# Altium footprint library miscellaneous.PcbLib: 34 footprints (part 1 of 3)
Each footprint in its own frame and in the unit in brackets; x right, y up, seen from the top. Pads: shape width x height; smd on the part's side, far side on the other; paste and mask are expansions set on the pad; w line width, h text height; cw(c..) or ccw(c..) is an arc to the next point about the centre after c.
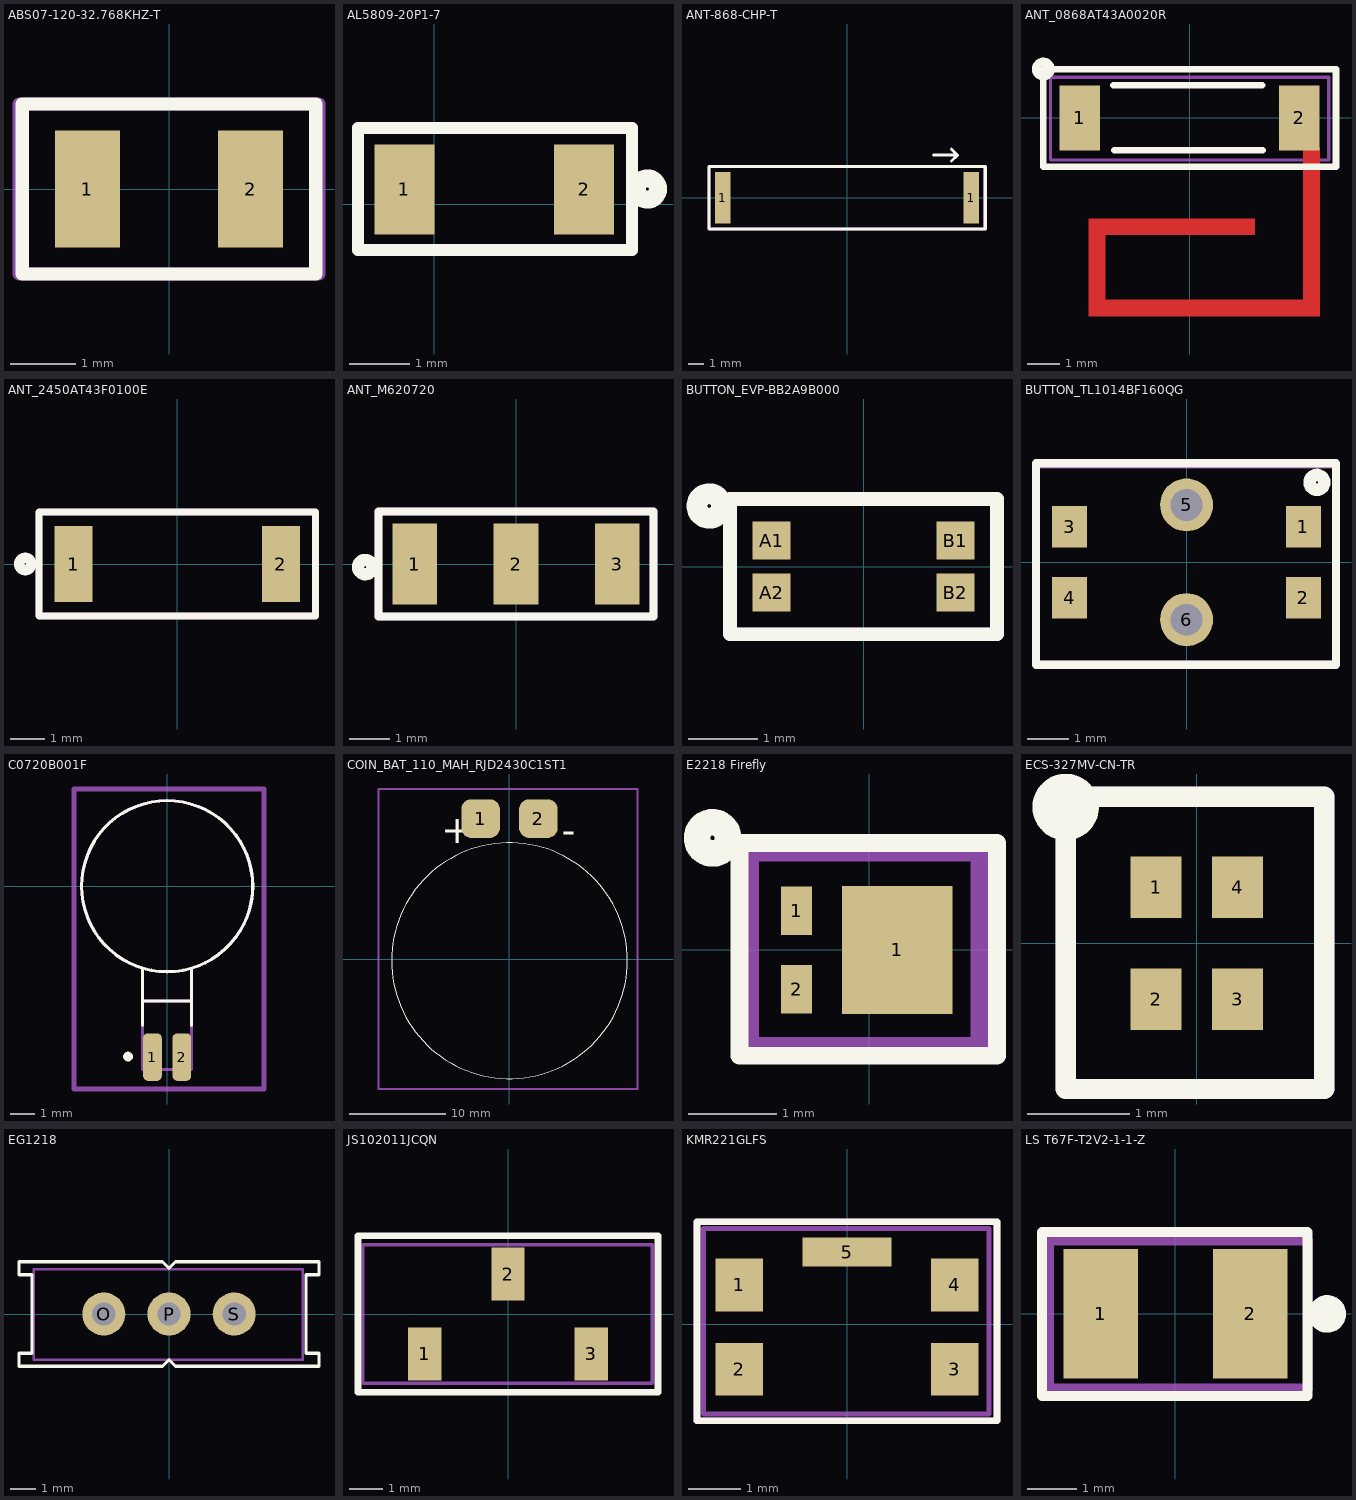
[diagram p0: the footprints below, top view; thin cyan lines are the x and y axes]

## ABS07-120-32.768KHZ-T [mm]
pads (2):
  rect 1x1.8 smd: 1(-1.25,0) 2(1.25,0)
Top Overlay:
  lines w0.2: -2.25,-1.3 -2.25,1.3 2.25,1.3 2.25,-1.3 -2.25,-1.3
Top Assembly:
  lines w0.2: -2.3,-1.3 2.3,-1.3 2.3,1.3 -2.3,1.3 -2.3,-1.3
  text ".Designator" at -1.325,-0.45 h0.89
3D body: height 0.77, standoff 0, extent -1.65,-0.8 1.65,0.8

## AL5809-20P1-7 [mm] "IC LED DRVR LIN PWM 20MA PDI12"
pads (2):
  rect 1x1.5 smd: 1(-0.498,0.248) 2(2.502,0.248)
Top Overlay:
  circle w0.3: c3.556,0.254 r0.177
  lines w0.2: -1.27,-0.762 -1.27,1.27 3.302,1.27 3.302,-0.762 -1.27,-0.762
Top Assembly:
  lines w0.2: -1.27,-0.762 3.302,-0.762 3.302,1.27 -1.27,1.27 -1.27,-0.762
  text ".Designator" at -0.508,-0.127 h0.89
3D body "User Library-POWERDI-123.STEP": height 1, standoff 0, extent -0.934,-0.711 2.966,1.219

## ANT-868-CHP-T [mil] "RF ANT 868MHZ CHIP SOLDER SMD"
pads (2):
  rect 40x130 smd: 1(-315,0) 1(315,0)
Top Overlay:
  lines w7.87: 219.45,108.27 279.49,108.27 264.72,123.03 ; 264.69,93 279.45,107.76 ; -349.45,-78.74 -349.45,78.74 350.35,78.74 350.35,-78.74 -349.45,-78.74
Top Assembly:
  lines w7.87: -349.45,-78.74 350.35,-78.74 350.35,78.74 -349.45,78.74 -349.45,-78.74
  text ".Designator" at -277.6,-16.73 h35
3D body: height 66.93, standoff 0, extent -315,-59.05 314.93,59.06

## ANT_0868AT43A0020R [mm]
pads (2):
  rect 1.25x2 smd: 1(-3.375,0) 2(3.375,0)
Top Layer:
  region: -3.1,-3.6 -3.1,-3.1 2,-3.1 2,-3.6
  region: -3.1,-5.6 -3.1,-3.1 -2.6,-3.1 -2.6,-5.6
  region: -3.1,-6.1 -3.1,-5.6 4,-5.6 4,-6.1
  region: 3.5,-6.1 3.5,-0.9 4,-0.9 4,-6.1
Top Overlay:
  circle w0.254: c-4.5,1.499 r0.224
  lines w0.2: -2.35,1 2.225,1 ; -2.325,-1 2.25,-1 ; -4.5,-1.5 -4.5,1.499 4.5,1.499 4.5,-1.5 -4.5,-1.5
Top Assembly:
  lines w0.1: -4.275,-1.3 4.275,-1.3 4.275,1.25 -4.275,1.25 -4.275,-1.3
  text ".Designator" at -2,-0.35 h0.89
3D body "User Library-0868AT43A0020.step": height 0.8, standoff 0, extent -3.55,-1 3.45,1

## ANT_2450AT43F0100E [mm] "RF ANT 2.4GHZ CHIP SOLDER SMD"
pads (2):
  rect 1.1x2.2 smd: 1(-3,0) 2(3,0)
Top Overlay:
  circle w0.3: c-4.4,0 r0.177
  lines w0.2: -4,-1.5 4,-1.5 4,1.5 -4,1.5 -4,-1.5
Top Assembly:
  lines w0.2: -4,-1.5 -4,1.5 4,1.5 4,-1.5 -4,-1.5
  text ".Designator" at -2.1,-0.4 h0.89
3D body "Johanson_2450AT43F0100.step": height 1.2, standoff 0, extent -3,-1 3,1

## ANT_M620720 [mm] "RF ANT 868MHZ/915MHZ CHIP SLD"
pads (3):
  rect 1.1x2 smd: 1(-2.5,0) 2(0,0) 3(2.5,0)
Top Overlay:
  circle w0.3: c-3.719,-0.076 r0.177
  lines w0.2: -3.389,-1.295 -3.389,1.295 3.393,1.295 3.393,-1.295 -3.389,-1.295
Top Assembly:
  lines w0.2: -3.389,-1.295 3.393,-1.295 3.393,1.295 -3.389,1.295 -3.389,-1.295
  text ".Designator" at -1.95,-0.436 h0.89
3D body "User Library-M562720.step": height 1.05, standoff -0.05, extent -3.001,-1.001 3.001,1.001

## BUTTON_EVP-BB2A9B000 [mm] "SWITCH TACTILE SPST-NO 0.02A 15V"
pads (4):
  rect 0.55x0.55 smd paste-1: A1(-1.325,0.375) A2(-1.325,-0.375) B1(1.325,0.375) B2(1.325,-0.375)
Top Overlay:
  circle w0.3: c-2.225,0.875 r0.177
  lines w0.2: -1.925,-0.975 1.925,-0.975 1.925,0.975 -1.925,0.975 -1.925,-0.975
Top Assembly:
  lines w0.2: -1.925,-0.975 -1.925,0.975 1.925,0.975 1.925,-0.975 -1.925,-0.975
  text ".Designator" at -1.275,-0.45 h0.89
3D body "User Library-EVPBB2A9B000.step": height 0.51, standoff -0.03, extent -1.475,-0.9 1.525,0.9

## BUTTON_TL1014BF160QG [mm] "Push button side actuator"
pads (6):
  rect 0.838x0.991 smd paste+0 mask+0: 1(2.8,0.85) 2(2.8,-0.85) 3(-2.8,0.85) 4(-2.8,-0.85)
  round 1.27 hole 0.762: 5(0,1.375) 6(0,-1.375)
Top Overlay:
  circle w0.3: c3.124,1.915 r0.177
  lines w0.2: -3.607,-2.454 -3.607,2.372 3.581,2.372 3.581,-2.454 -3.607,-2.454
Top Assembly:
  lines w0.2: -3.607,-2.454 3.581,-2.454 3.581,2.347 -3.607,2.347 -3.607,-2.454
  text ".Designator" at -2.134,-0.396 h0.89
3D body "TL1014BFxxxQG.stp": height 1.65, standoff -0.5, extent -3.2,-2.714 3.2,1.786

## C0720B001F [mm] "VIBRATION ERM MTR 10000 RPM 3V"
pads (2):
  rrect50% 0.76x1.94 smd: 1(-0.599,-6.987) 2(0.601,-6.987)
Top Overlay:
  circle w0.2: c-1.599,-6.967 r0.1
  circle w0.127: c0.001,0.003 r3.5
  lines w0.127: -0.999,-5.692 -0.999,-4.697 ; -0.999,-3.392 -0.999,-4.697 ; 1.001,-5.692 1.001,-4.697 ; 1.001,-3.392 1.001,-4.697 ; -0.999,-4.697 1.001,-4.697
Top 3D Body:
  circle w0.127: c0.001,0.003 r3.5
  lines w0.127: -0.999,-4.692 1.001,-4.692 1.001,-3.392 ; -0.999,-3.392 -0.999,-7.497 1.001,-7.497 1.001,-4.697
Top Assembly:
  lines w0.2: -3.809,-8.292 3.963,-8.292 3.963,3.977 -3.809,3.977 -3.809,-8.292
  text ".Designator" at -2.26,-1.942 h0.89
3D body "C0720B001F--3DModel-STEP-56544.STEP": height 2.1, standoff 0, extent -3.499,-7.46 3.501,3.54

## COIN_BAT_110_MAH_RJD2430C1ST1 [mm] "BATTERY LITHIUM 110mAh 3.7V COIN 24.5MM"
pads (2):
  rrect50% 4x4 smd: 1(-2.975,14.598) 2(3.025,14.598)
Top Overlay:
  circle w0.1: c0.025,-0.152 r12.25
  text "+" at -7.063,11.049 h5
  text "-" at 5.434,11.049 h5
Top Assembly:
  lines w0.2: -13.589,-13.487 -13.589,17.678 13.335,17.678 13.335,-13.487 -13.589,-13.487
  text ".Designator" at -1.325,-0.45 h0.89
3D body "RJD2430C1ST1.step": height 3.35, standoff 0, extent -12.225,-12.402 12.275,16.098

## E2218 Firefly [mm]
pads (3):
  rect 0.35x0.55 smd: 1(-0.826,0.445) 2(-0.826,-0.445)
  rect 1.25x1.45 smd: 1(0.318,0)
Top Overlay:
  circle w0.3: c-1.778,1.27 r0.177
  lines w0.2: -1.472,-1.2 1.449,-1.2 1.449,1.213 -1.472,1.213 -1.472,-1.2
Top Assembly:
  lines w0.2: -1.351,-1.09 1.249,-1.09 1.249,1.1 -1.351,1.1 -1.351,-1.09
  text ".Designator" at -0.964,-0.311 h0.89
3D body: height 0.6, standoff 0.05, extent -1.143,-0.889 1.067,0.915
3D body: height 0.61, standoff 0.05, extent -0.902,-0.673 0.826,0.648
3D body: height 0.05, standoff 0, extent -1.003,0.166 -0.648,0.724
3D body: height 0.05, standoff 0, extent -1.003,-0.723 -0.648,-0.165
3D body: height 0.05, standoff 0, extent -0.318,-0.749 0.978,0.75

## ECS-327MV-CN-TR [mm] "XTAL OSC XO 32.7680KHZ CMOS SMD"
pads (4):
  rect 0.5x0.6 smd: 1(-0.4,0.55) 2(-0.4,-0.55) 3(0.4,-0.55) 4(0.4,0.55)
Top Overlay:
  circle w0.3: c-1.289,1.337 r0.177
  lines w0.2: -1.289,-1.431 1.251,-1.431 1.251,1.439 -1.289,1.439 -1.289,-1.431
Top Assembly:
  lines w0.2: -1.289,-1.431 -1.289,1.439 1.251,1.439 1.251,-1.431 -1.289,-1.431
  text ".Designator" at -0.65,-0.25 h0.89
3D body: height 0.6, standoff 0, extent -0.756,-0.949 0.743,0.956

## EG1218 [mil] "Slide switch"
pads (3):
  round 66 hole 35.43: O(-100,0) P(0,0) S(100,0)
Top Overlay:
  lines w5: -230,-80 -10,-80 0,-70 10,-80 230,-80 230,-60 210,-60 210,60 230,60 230,80 10,80 0,70 -10,80 -230,80 -230,60 -210,60 -210,-60 -230,-60 -230,-80
Top Assembly:
  lines w3.94: -207.28,-70 205,-70 205,68.82 -207.28,68.82 -207.28,-70
  text ".Designator" at -157.09,-10.91 h35
3D body "EG1218.stp": height 275.59, standoff -200.79, extent -228.34,-78.73 228.35,78.75

## JS102011JCQN [mm] "3 ways slide switch"
pads (3):
  rect 1x1.6 smd: 1(-2.5,-1.2) 2(0,1.2) 3(2.5,-1.2)
Top Overlay:
  lines w0.2: -4.5,-2.35 4.5,-2.35 4.5,2.35 -4.5,2.35 -4.5,-2.35
Top Assembly:
  lines w0.1: -4.35,-2.075 -4.35,2.075 4.325,2.075 4.325,-2.075 -4.35,-2.075
  text ".Designator" at -3,-0.225 h0.89
3D body "JS102011JCQN--3DModel-STEP-56544.STEP": height 5.12, standoff -0.28, extent -4.25,-2 4.25,2

## KMR221GLFS [mm]
pads (5):
  rect 0.9x1 smd: 1(-2.05,0.742) 2(-2.05,-0.859) 3(2.05,-0.859) 4(2.05,0.742)
  rect 1.7x0.55 smd: 5(0,1.367)
Top Overlay:
  lines w0.127: -2.85,-1.836 -2.85,1.942 2.85,1.942 2.85,-1.836 -2.85,-1.836
Top 3D Body:
  lines w0.127: -2.85,-1.836 -2.85,1.942 2.85,1.942 2.85,-1.836 -2.85,-1.836
Top Assembly:
  lines w0.1: -2.725,-1.709 2.7,-1.709 2.7,1.816 -2.725,1.816 -2.725,-1.709
  text ".Designator" at -1.45,-0.208 h0.89
3D body "User Library-Switch-CK-KMR2.STEP": height 2.1, standoff 0, extent -2.3,-1.559 2.3,1.442

## LS T67F-T2V2-1-1-Z [mm] "LED RED CLEAR 2PLCC SMD"
pads (2):
  rect 1.5x2.6 smd: 1(-1.5,0) 2(1.5,0)
Top Overlay:
  circle w0.4: c3.048,0 r0.177
  lines w0.2: -2.678,-1.653 2.656,-1.653 2.656,1.649 -2.678,1.649 -2.678,-1.653
Top Assembly:
  lines w0.2: -2.54,-1.502 -2.54,1.473 2.667,1.473 2.667,-1.502 -2.54,-1.502
  text ".Designator" at -1.397,-0.381 h0.89
3D body "LS_T67F_20141217_geometry.STEP": height 1.8, standoff -0.03, extent -1.775,-1.4 1.775,1.4